# EAGLE library part SWD (library CougsInSpace-Connectors)
Serial Wire Debug
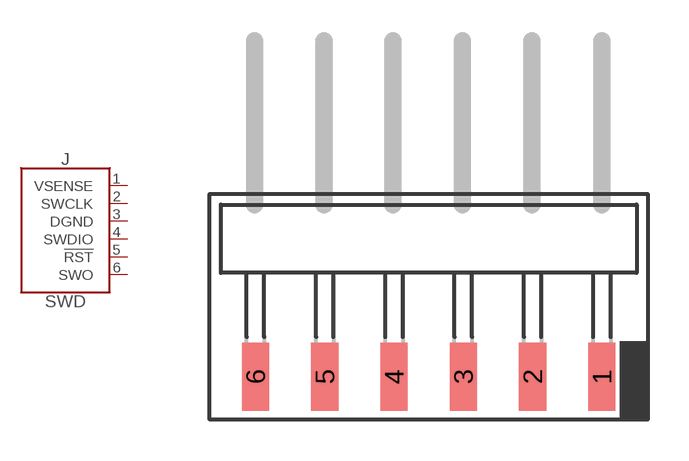
[diagram p1: symbol with the pads of SMD2.54-1X06-R; footprint SMD2.54-1X06-R]

Designator prefix J

## SWDSMD-6-R (PACKAGE: SMD-6-R; SKU: 04-0004; VALUE: SWD)  [SMD2.54-1X06-R]
1  VSENSE  pas
2  SWCLK  out
3  DGND  pwr
4  SWDIO
5  !RST  pas
6  SWO  in

## Footprint SMD2.54-1X06-R (pad centres in mm)
SMD 2.54mm - 1x6 Conductor - Right Angle
smd 1 x 2.5: 1 6.35,-5; 2 3.81,-5; 3 1.27,-5; 4 -1.27,-5; 5 -3.81,-5; 6 -6.35,-5